# Altium footprint library 2301840-1.PcbLib: 2 footprints
Each footprint in its own frame and in the unit in brackets; x right, y up, seen from the top. Pads: shape width x height; smd on the part's side, far side on the other; paste and mask are expansions set on the pad; w line width, h text height; cw(c..) or ccw(c..) is an arc to the next point about the centre after c.
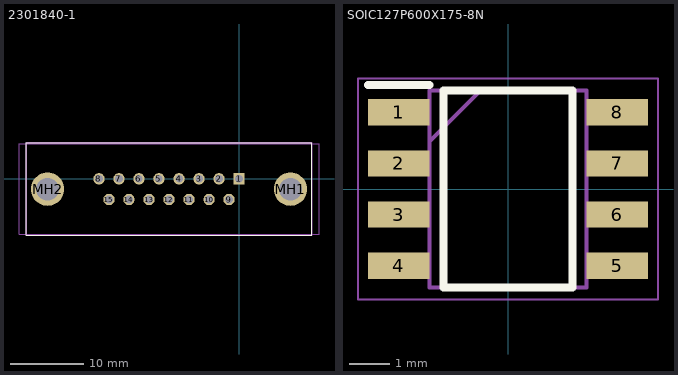
[diagram p0: the footprints below, top view; thin cyan lines are the x and y axes]

## 2301840-1 [mm]
pads (17):
  rect 1.56x1.56 hole 1.04: 1(0,0)
  round 1.56 hole 1.04: 2(-2.74,0) 3(-5.48,0) 4(-8.22,0) 5(-10.98,0) 6(-13.72,0) 7(-16.46,0) 8(-19.2,0) 9(-1.37,-2.84) 10(-4.11,-2.84) 11(-6.86,-2.84) 12(-9.6,-2.84) 13(-12.34,-2.84) 14(-15.09,-2.84) 15(-17.83,-2.84)
  round 4.575 hole 3.1: MH1(7.06,-1.42) MH2(-26.26,-1.42)
Top Overlay:
  lines w0.1: -29.17,-7.747 9.97,-7.747 9.97,4.953 -29.17,4.953 -29.17,-7.747
Mechanical 13:
  lines w0.2: -29.17,-7.747 9.97,-7.747 9.97,4.953 -29.17,4.953 -29.17,-7.747
Mechanical 15:
  lines w0.1: -30.17,-7.625 10.97,-7.625 10.97,4.785 -30.17,4.785 -30.17,-7.625
3D body "c-2301840-1-b-3d.stp": height 12.1, standoff -4.6, extent -29.19,-7.695 9.99,4.855

## SOIC127P600X175-8N [mm]
pads (8):
  rect 1.525x0.65 smd: 1(-2.712,1.905) 2(-2.712,0.635) 3(-2.712,-0.635) 4(-2.712,-1.905) 5(2.712,-1.905) 6(2.712,-0.635) 7(2.712,0.635) 8(2.712,1.905)
Top Overlay:
  lines w0.2: -3.475,2.58 -1.95,2.58 ; -1.6,-2.45 1.6,-2.45 1.6,2.45 -1.6,2.45 -1.6,-2.45
Mechanical 13:
  lines w0.1: -1.95,1.18 -0.68,2.45 ; -1.95,-2.45 1.95,-2.45 1.95,2.45 -1.95,2.45 -1.95,-2.45
Mechanical 15:
  lines w0.05: -3.725,-2.75 3.725,-2.75 3.725,2.75 -3.725,2.75 -3.725,-2.75
3D body "NE555DR.stp": height 1.75, standoff 0, extent -3,-2.45 3,2.45